# EAGLE library part MAX485ESA+T (library picoRS485Gateway)
Check prices <https://pricing.snapeda.com/parts/MAX485ESA%2BT/Maxim%20Integrated/view-part?ref=eda>
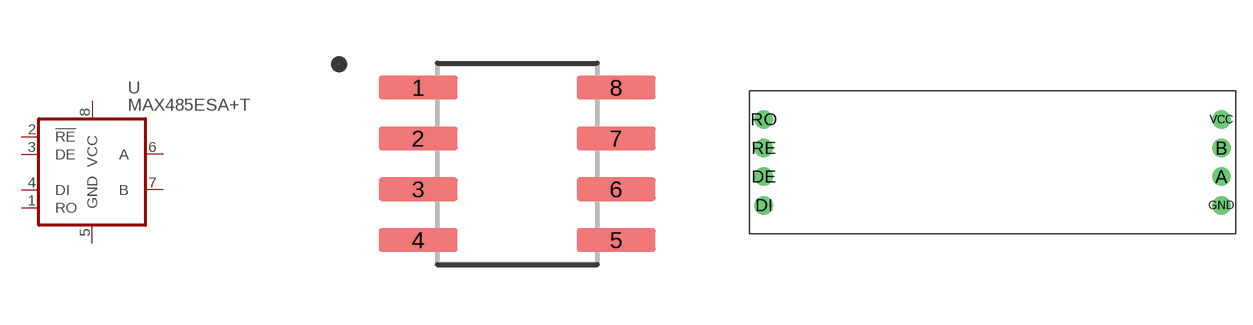
[diagram p1: symbol with the pads of SOIC127P600X175-8N; footprints SOIC127P600X175-8N, MAX485MODULE]

Designator prefix U

## MAX485ESA+T (AVAILABILITY: Not in stock; DESCRIPTION: 1/1 Transceiver Half RS422, RS485 8-SOIC; MF: Maxim Integrated; MP: MAX485ESA+T; PACKAGE: SOIC-8 Maxim; PRICE: None)  [SOIC127P600X175-8N]
1  RO  out
2  !RE  in
3  DE  in
4  DI  in
5  GND  pwr
6  A
7  B
8  VCC  pwr

## MAX485ESA+TMODULE  [MAX485MODULE]
A  A
B  B
DE  DE  in
DI  DI  in
GND  GND  pwr
RE  !RE  in
RO  RO  out
VCC  VCC  pwr

## Footprint SOIC127P600X175-8N (pad centres in mm)
smd 1.97 x 0.59: 1 -2.475,1.905; 2 -2.475,0.635; 3 -2.475,-0.635; 4 -2.475,-1.905; 5 2.475,-1.905; 6 2.475,-0.635; 7 2.475,0.635; 8 2.475,1.905

## Footprint MAX485MODULE (pad centres in mm)
drill 1.1: A 40.64,5.08; B 40.64,7.62; DE 0,5.08; DI 0,2.54; GND 40.64,2.54; RE 0,7.62; RO 0,10.16; VCC 40.64,10.16